# Altium footprint library LED-XTAL.PCBLIB: 105 footprints (part 4 of 7)
Each footprint in its own frame and in the unit in brackets; x right, y up, seen from the top. Pads: shape width x height; smd on the part's side, far side on the other; paste and mask are expansions set on the pad; w line width, h text height; cw(c..) or ccw(c..) is an arc to the next point about the centre after c.
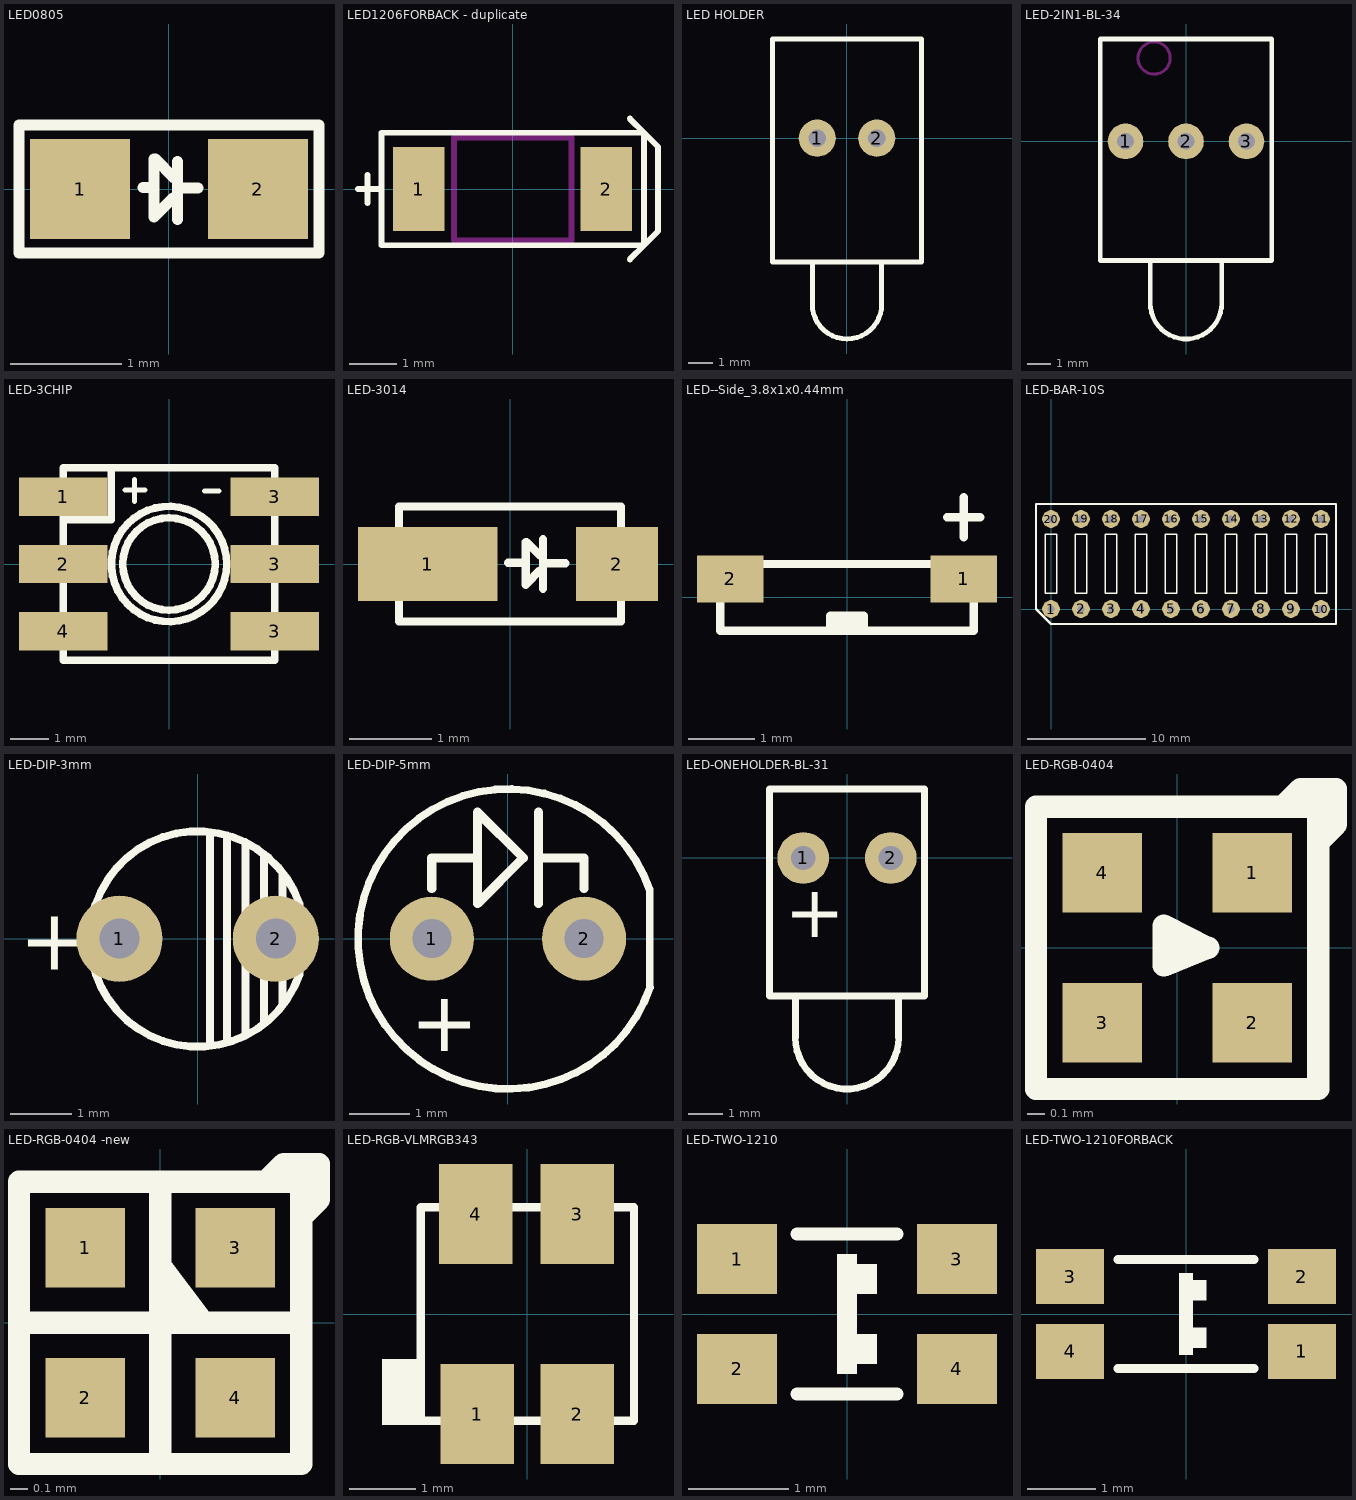
[diagram p3: the footprints below, top view; thin cyan lines are the x and y axes]

## LED0805 [mm]
pads (2):
  rect 0.9x0.9 smd: 1(-0.8,0) 2(0.8,0)
TopOverlay:
  lines w0.1: -0.235,0.015 -0.16,0.015 ; -0.135,-0.251 -0.135,0.269 ; -0.124,0.269 0.045,0.1 ; -0.121,-0.236 0.035,-0.08 ; 0.075,-0.275 0.075,0.245 ; 0.08,0.01 0.26,0.01 ; -1.35,-0.575 1.35,-0.575 1.35,0.575 -1.35,0.575 -1.35,-0.575

## LED1206FORBACK - duplicate [mm]
pads (2):
  rect 1.1x1.8 smd: 1(-2,0) 2(2,0)
TopOverlay:
  lines w0.127: -3.3,0 -2.8,0 ; -3.1,-0.3 -3.1,0.3 ; 2.5,-1.5 2.8,-1.2 ; 2.5,1.5 2.8,1.2 ; 2.8,-1.2 -2.8,-1.2 -2.8,1.2 2.8,1.2 ; 2.8,-1.2 2.8,1.2 ; 2.8,-1.2 3.1,-0.9 3.1,0.9 2.8,1.2
KeepOutLayer:
  lines w0.127: -1.25,-1.1 -1.25,1.1 ; -1.2,-1.1 1.2,-1.1 ; -1.2,1.1 1.2,1.1 ; 1.25,-1.1 1.25,1.1

## LED HOLDER [mm]
pads (2):
  round 1.5 hole 0.7: 1(-1.2,0) 2(1.2,0)
TopOverlay:
  lines w0.2: -1.4,-6.7 ccw(c0,-6.7) 0,-8.1 ccw(c0,-6.7) 1.4,-6.7
  lines w0.203: -1.4,-6.7 -1.4,-5 ; 1.4,-6.7 1.4,-5 ; -3,-5 3,-5 3,4 -3,4 -3,-5

## LED-2IN1-BL-34 [mm]
pads (3):
  round 1.5 hole 0.7: 1(-2.54,0) 2(0,0) 3(2.54,0)
TopOverlay:
  lines w0.2: -1.5,-5 -1.5,-6.8 ccw(c0,-6.8) 1.5,-6.8 1.5,-5 ; -3.6,-5 -3.6,4.3 3.6,4.3 3.6,-5 -3.6,-5
KeepOutLayer:
  circle w0.127: c-1.34,3.5 r0.675

## LED-3CHIP [mm]
pads (6):
  rect 2.3x1 smd: 1(-2.75,1.75) 2(-2.75,0) 3(2.75,-1.75) 3(2.75,0) 3(2.75,1.75) 4(-2.75,-1.75)
TopOverlay:
  circle w0.2: c0,0 r1.5
  circle w0.2: c0,0 r1.2
  lines w0.127: -1.15,1.925 -0.625,1.925 ; -0.9,1.625 -0.9,2.2 ; 0.925,1.9 1.3,1.9
  lines w0.2: -2.75,1.15 -1.5,1.15 -1.5,2.5 ; -2.75,-2.5 -2.75,2.5 2.75,2.5 2.75,-2.5 -2.75,-2.5

## LED-3014 [mm] "LED-3014"
pads (2):
  rect 1.7x0.9 smd: 1(-1,0)
  rect 1x0.9 smd: 2(1.3,0)
TopOverlay:
  lines w0.1: -0.025,0.015 0.165,0.015 ; 0.19,-0.251 0.19,0.269 ; 0.201,0.269 0.37,0.1 ; 0.204,-0.236 0.36,-0.08 ; 0.4,-0.3 0.4,0.3 ; 0.405,0.01 0.675,0.01 ; -1.35,-0.7 -1.35,0.7 1.35,0.7 1.35,-0.7 -1.35,-0.7

## LED--Side_3.8x1x0.44mm [mm] "LED--Side_3.8x1x0.44mm"
pads (2):
  rect 1x0.7 smd: 1(1.75,0.275) 2(-1.75,0.275)
TopOverlay:
  rectangle: -0.25,-0.5 0.25,-0.275
  lines w0.127: 0.25,-0.5 0.25,-0.275 -0.25,-0.275 -0.25,-0.5 ; 1.5,1.2 2,1.2 ; 1.75,0.9 1.75,1.5 ; -0.25,-0.5 1.9,-0.5 1.9,0.5 -1.9,0.5 -1.9,-0.5 -0.25,-0.5

## LED-BAR-10S [mm]
pads (20):
  round 1.5 hole 0.6: 1(0,0) 2(2.54,0) 3(5.08,0) 4(7.62,0) 5(10.16,0) 6(12.7,0) 7(15.24,0) 8(17.78,0) 9(20.32,0) 10(22.86,0) 11(22.86,7.62) 12(20.32,7.62) 13(17.78,7.62) 14(15.24,7.62) 15(12.7,7.62) 16(10.16,7.62) 17(7.62,7.62) 18(5.08,7.62) 19(2.54,7.62) 20(0,7.62)
TopOverlay:
  lines w0.127: -0.5,1.325 0.5,1.325 0.5,6.325 -0.5,6.325 -0.5,1.325 ; 2.04,1.325 3.04,1.325 3.04,6.325 2.04,6.325 2.04,1.325 ; 4.58,1.325 5.58,1.325 5.58,6.325 4.58,6.325 4.58,1.325 ; 7.12,1.325 8.12,1.325 8.12,6.325 7.12,6.325 7.12,1.325 ; 9.66,1.325 10.66,1.325 10.66,6.325 9.66,6.325 9.66,1.325 ; 12.2,1.325 13.2,1.325 13.2,6.325 12.2,6.325 12.2,1.325 ; 14.74,1.325 15.74,1.325 15.74,6.325 14.74,6.325 14.74,1.325 ; 17.28,1.325 18.28,1.325 18.28,6.325 17.28,6.325 17.28,1.325 ; 19.825,1.325 20.825,1.325 20.825,6.325 19.825,6.325 19.825,1.325 ; 22.36,1.325 23.36,1.325 23.36,6.325 22.36,6.325 22.36,1.325
  lines w0.2: -1.27,0 -1.27,8.89 24.13,8.89 24.13,-1.27 0,-1.27 -1.27,0

## LED-DIP-3mm [mm] "LED-DIP-3mm"
pads (2):
  round 1.4 hole 0.65: 1(-1.27,0) 2(1.27,0)
TopOverlay:
  lines w0.127: 0.2,-1.725 0.2,1.725 ; 0.475,-1.675 0.475,1.675 ; 0.775,-1.55 0.775,1.525 ; 1.075,-1.375 1.075,1.35 ; 1.375,-1.075 1.375,1.05 ; 1.655,0.567 ccw(c0.001,-0.005) 1.657,-0.57 1.655,0.567
  text "+" at -2.9,-0.5 h1

## LED-DIP-5mm [mm] "LED-DIP-5mm"
pads (2):
  round 1.4 hole 0.65: 1(-1.27,0) 2(1.27,0)
TopOverlay:
  lines w0.127: 2.364,-0.813 2.364,0.812 ccw(c0.001,-0.005) 2.367,-0.813
  lines w0.152: -1.27,0.838 -1.27,1.346 -0.508,1.346 ; 0.508,0.584 0.508,2.108 ; 0.508,1.346 1.27,1.346 1.27,0.838 ; -0.508,0.584 0.254,1.346 -0.508,2.108 -0.508,0.584
  text "+" at -1.625,-1.875 h1

## LED-ONEHOLDER-BL-31 [mm]
pads (2):
  round 1.5 hole 0.7: 1(-1.27,0) 2(1.27,0)
TopOverlay:
  lines w0.2: -1.5,-5.2 ccw(c0,-5.2) 1.5,-5.2
  lines w0.203: -1.5,-5.2 -1.5,-4 ; 1.5,-5.2 1.5,-4 ; -2.25,-4 2.25,-4 2.25,2 -2.25,2 -2.25,-4
  text "+" at -1.8,-2.3 h1.52

## LED-RGB-0404 [mm] "LED-RGB-0404"
pads (4):
  rect 0.45x0.45 smd: 1(0.425,0.425) 2(0.425,-0.425) 3(-0.425,-0.425) 4(-0.425,0.425)
TopOverlay:
  rectangle: -0.125,-0.05 0.125,0.05
  lines w0.127: 0.6,0.8 0.7,0.9 0.9,0.9 ; 0.8,0.6 0.9,0.7 0.9,0.9 ; 0.8,0.8 0.8,-0.8 -0.8,-0.8 -0.8,0.8 0.8,0.8 ; 0.8,0.8 0.9,0.9 ; -0.075,-0.1 0.175,0 -0.075,0.125 -0.075,-0.1

## LED-RGB-0404 -new [mm] "LED-RGB-0404 -new"
pads (4):
  rect 0.45x0.45 smd: 1(-0.425,0.425) 2(-0.425,-0.425) 3(0.425,0.425) 4(0.425,-0.425)
TopOverlay:
  rectangle: 0,0 0.15,0.175
  lines w0.127: -0.8,0 0.8,0 ; 0,-0.8 0,0.8 ; 0,0.325 0.225,0.025 ; 0.6,0.8 0.7,0.9 0.9,0.9 ; 0.8,0.6 0.9,0.7 0.9,0.9 ; 0.8,0.8 0.9,0.9 ; 0.8,0.8 -0.8,0.8 -0.8,-0.8 0.8,-0.8 0.8,0.8

## LED-RGB-VLMRGB343 [mm] "LED-RGB-VLMRGB343"
pads (4):
  rect 1.1x1.5 smd: 1(-0.75,-1.5) 2(0.75,-1.5) 3(0.75,1.5) 4(-0.775,1.5)
TopOverlay:
  rectangle: -2.18,-1.664 -1.55,-0.675
  lines w0.127: -2.1,-1.6 -1.575,-1.6 ; -1.6,-1.6 1.6,-1.6 1.6,1.6 -1.6,1.6 -1.6,-1.6

## LED-TWO-1210 [mm]
pads (4):
  rect 0.8x0.7 smd: 1(-1.1,0.55) 2(-1.1,-0.55) 3(1.1,0.55) 4(1.1,-0.55)
TopOverlay:
  rectangle: -0.1,-0.6 0.1,0.6
  rectangle: 0.1,0.2 0.3,0.5
  rectangle: 0.1,-0.5 0.3,-0.2
  lines w0.127: -0.5,-0.8 0.5,-0.8 ; -0.5,0.8 0.5,0.8

## LED-TWO-1210FORBACK [mm]
pads (4):
  rect 1x0.8 smd: 1(1.7,-0.55) 2(1.7,0.55) 3(-1.7,0.55) 4(-1.7,-0.55)
TopOverlay:
  rectangle: -0.1,-0.6 0.1,0.6
  rectangle: 0.1,0.2 0.3,0.5
  rectangle: 0.1,-0.5 0.3,-0.2
  lines w0.127: -1,-0.8 1,-0.8 ; -1,0.8 1,0.8